# Altium integrated library Dallas Logic Delay Line.IntLib: 454 symbols (part 5 of 7)
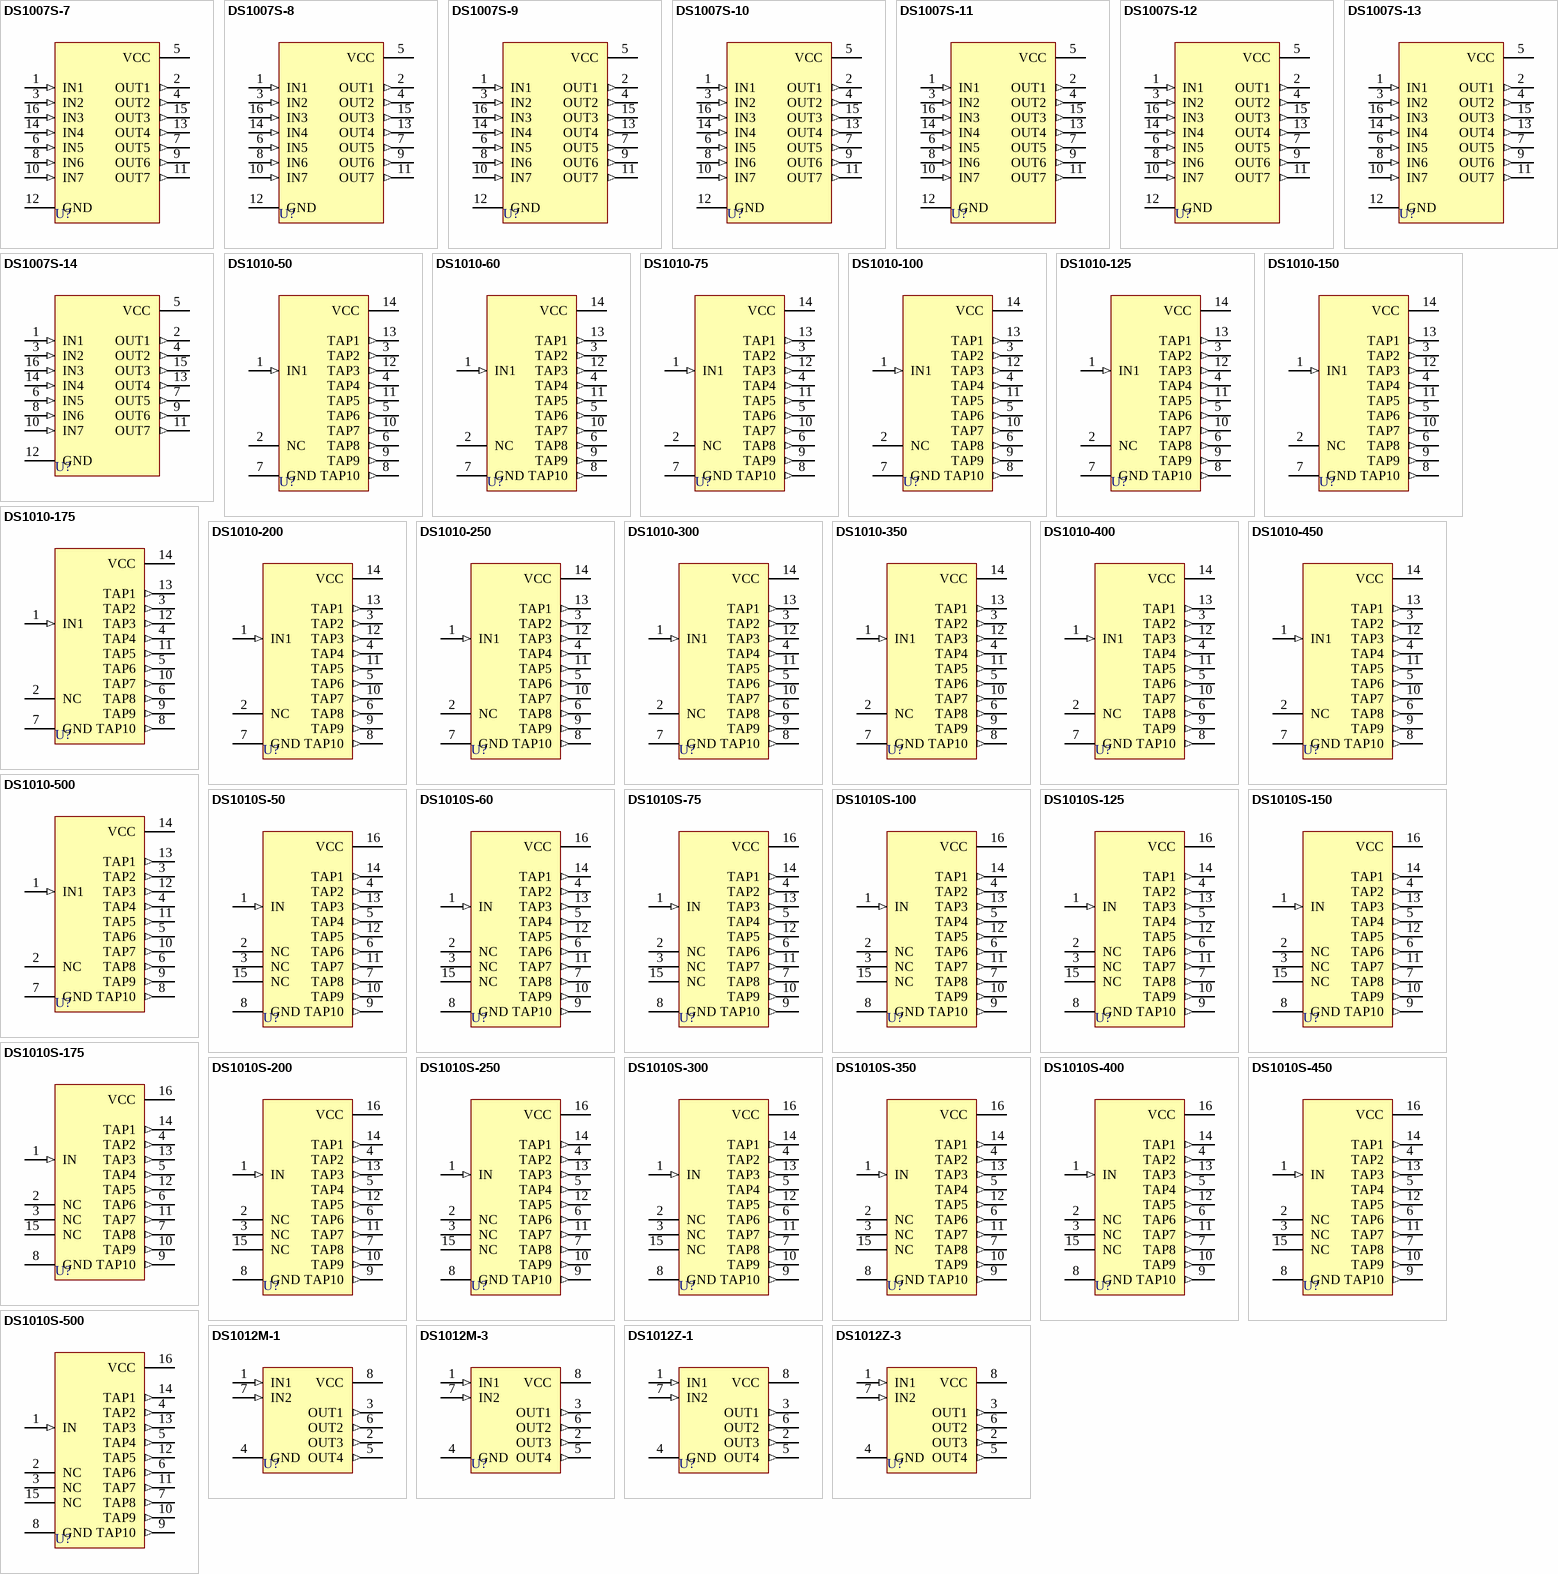
[diagram p15: symbols DS1007S-7 to DS1012Z-3]

## DS1010S-150
designator U?
10-Tap Silicon Delay Line; PackageDocument: 1999; Note: Pin numbers 2, 3 and 15 are Not Connected (NC); Published: 13-Oct-2000; LatestRevisionDate: 06-Jun-2005; LatestRevisionNote: Stylized 3D Model Added.; DatasheetDocument: 17-Feb-1998; PackageReference: SOIC16W; Publisher: Altium Limited; ComponentLink1Description: Manufacturer Link; ComponentLink1URL: http://www.maxim-ic.com/; ComponentLink2Description: Datasheet; ComponentLink2URL: http://www.maxim-ic.com/getds.cfm?qv_pk=2604&ln=en
footprint SOIC16W (Small Outline; 16 Leads; Body Width 7.5 mm; Pitch 1.27 mm)
3D model SOIC16W (Small Outline; 16 Leads; Body Width 7.5 mm; Pitch 1.27 mm)
pins: 1 IN (in), 2 NC, 3 NC, 4 TAP2 (out), 5 TAP4 (out), 6 TAP6 (out), 7 TAP8 (out), 8 GND (power), 9 TAP10 (out), 10 TAP9 (out), 11 TAP7 (out), 12 TAP5 (out), 13 TAP3 (out), 14 TAP1 (out), 15 NC, 16 VCC (power)

## DS1010S-175
designator U?
10-Tap Silicon Delay Line; PackageDocument: 1999; Note: Pin numbers 2, 3 and 15 are Not Connected (NC); Published: 13-Oct-2000; LatestRevisionDate: 06-Jun-2005; LatestRevisionNote: Stylized 3D Model Added.; DatasheetDocument: 17-Feb-1998; PackageReference: SOIC16W; Publisher: Altium Limited; ComponentLink1Description: Manufacturer Link; ComponentLink1URL: http://www.maxim-ic.com/; ComponentLink2Description: Datasheet; ComponentLink2URL: http://www.maxim-ic.com/getds.cfm?qv_pk=2604&ln=en
footprint SOIC16W (Small Outline; 16 Leads; Body Width 7.5 mm; Pitch 1.27 mm)
3D model SOIC16W (Small Outline; 16 Leads; Body Width 7.5 mm; Pitch 1.27 mm)
pins: 1 IN (in), 2 NC, 3 NC, 4 TAP2 (out), 5 TAP4 (out), 6 TAP6 (out), 7 TAP8 (out), 8 GND (power), 9 TAP10 (out), 10 TAP9 (out), 11 TAP7 (out), 12 TAP5 (out), 13 TAP3 (out), 14 TAP1 (out), 15 NC, 16 VCC (power)

## DS1010S-200
designator U?
10-Tap Silicon Delay Line; PackageDocument: 1999; Note: Pin numbers 2, 3 and 15 are Not Connected (NC); Published: 13-Oct-2000; LatestRevisionDate: 06-Jun-2005; LatestRevisionNote: Stylized 3D Model Added.; DatasheetDocument: 17-Feb-1998; PackageReference: SOIC16W; Publisher: Altium Limited; ComponentLink1Description: Manufacturer Link; ComponentLink1URL: http://www.maxim-ic.com/; ComponentLink2Description: Datasheet; ComponentLink2URL: http://www.maxim-ic.com/getds.cfm?qv_pk=2604&ln=en
footprint SOIC16W (Small Outline; 16 Leads; Body Width 7.5 mm; Pitch 1.27 mm)
3D model SOIC16W (Small Outline; 16 Leads; Body Width 7.5 mm; Pitch 1.27 mm)
pins: 1 IN (in), 2 NC, 3 NC, 4 TAP2 (out), 5 TAP4 (out), 6 TAP6 (out), 7 TAP8 (out), 8 GND (power), 9 TAP10 (out), 10 TAP9 (out), 11 TAP7 (out), 12 TAP5 (out), 13 TAP3 (out), 14 TAP1 (out), 15 NC, 16 VCC (power)

## DS1010S-250
designator U?
10-Tap Silicon Delay Line; PackageDocument: 1999; Note: Pin numbers 2, 3 and 15 are Not Connected (NC); Published: 13-Oct-2000; LatestRevisionDate: 06-Jun-2005; LatestRevisionNote: Stylized 3D Model Added.; DatasheetDocument: 17-Feb-1998; PackageReference: SOIC16W; Publisher: Altium Limited; ComponentLink1Description: Manufacturer Link; ComponentLink1URL: http://www.maxim-ic.com/; ComponentLink2Description: Datasheet; ComponentLink2URL: http://www.maxim-ic.com/getds.cfm?qv_pk=2604&ln=en
footprint SOIC16W (Small Outline; 16 Leads; Body Width 7.5 mm; Pitch 1.27 mm)
3D model SOIC16W (Small Outline; 16 Leads; Body Width 7.5 mm; Pitch 1.27 mm)
pins: 1 IN (in), 2 NC, 3 NC, 4 TAP2 (out), 5 TAP4 (out), 6 TAP6 (out), 7 TAP8 (out), 8 GND (power), 9 TAP10 (out), 10 TAP9 (out), 11 TAP7 (out), 12 TAP5 (out), 13 TAP3 (out), 14 TAP1 (out), 15 NC, 16 VCC (power)

## DS1010S-300
designator U?
10-Tap Silicon Delay Line; PackageDocument: 1999; Note: Pin numbers 2, 3 and 15 are Not Connected (NC); Published: 13-Oct-2000; LatestRevisionDate: 06-Jun-2005; LatestRevisionNote: Stylized 3D Model Added.; DatasheetDocument: 17-Feb-1998; PackageReference: SOIC16W; Publisher: Altium Limited; ComponentLink1Description: Manufacturer Link; ComponentLink1URL: http://www.maxim-ic.com/; ComponentLink2Description: Datasheet; ComponentLink2URL: http://www.maxim-ic.com/getds.cfm?qv_pk=2604&ln=en
footprint SOIC16W (Small Outline; 16 Leads; Body Width 7.5 mm; Pitch 1.27 mm)
3D model SOIC16W (Small Outline; 16 Leads; Body Width 7.5 mm; Pitch 1.27 mm)
pins: 1 IN (in), 2 NC, 3 NC, 4 TAP2 (out), 5 TAP4 (out), 6 TAP6 (out), 7 TAP8 (out), 8 GND (power), 9 TAP10 (out), 10 TAP9 (out), 11 TAP7 (out), 12 TAP5 (out), 13 TAP3 (out), 14 TAP1 (out), 15 NC, 16 VCC (power)

## DS1010S-350
designator U?
10-Tap Silicon Delay Line; PackageDocument: 1999; Note: Pin numbers 2, 3 and 15 are Not Connected (NC); Published: 13-Oct-2000; LatestRevisionDate: 06-Jun-2005; LatestRevisionNote: Stylized 3D Model Added.; DatasheetDocument: 17-Feb-1998; PackageReference: SOIC16W; Publisher: Altium Limited; ComponentLink1Description: Manufacturer Link; ComponentLink1URL: http://www.maxim-ic.com/; ComponentLink2Description: Datasheet; ComponentLink2URL: http://www.maxim-ic.com/getds.cfm?qv_pk=2604&ln=en
footprint SOIC16W (Small Outline; 16 Leads; Body Width 7.5 mm; Pitch 1.27 mm)
3D model SOIC16W (Small Outline; 16 Leads; Body Width 7.5 mm; Pitch 1.27 mm)
pins: 1 IN (in), 2 NC, 3 NC, 4 TAP2 (out), 5 TAP4 (out), 6 TAP6 (out), 7 TAP8 (out), 8 GND (power), 9 TAP10 (out), 10 TAP9 (out), 11 TAP7 (out), 12 TAP5 (out), 13 TAP3 (out), 14 TAP1 (out), 15 NC, 16 VCC (power)

## DS1010S-400
designator U?
10-Tap Silicon Delay Line; PackageDocument: 1999; Note: Pin numbers 2, 3 and 15 are Not Connected (NC); Published: 13-Oct-2000; LatestRevisionDate: 06-Jun-2005; LatestRevisionNote: Stylized 3D Model Added.; DatasheetDocument: 17-Feb-1998; PackageReference: SOIC16W; Publisher: Altium Limited; ComponentLink1Description: Manufacturer Link; ComponentLink1URL: http://www.maxim-ic.com/; ComponentLink2Description: Datasheet; ComponentLink2URL: http://www.maxim-ic.com/getds.cfm?qv_pk=2604&ln=en
footprint SOIC16W (Small Outline; 16 Leads; Body Width 7.5 mm; Pitch 1.27 mm)
3D model SOIC16W (Small Outline; 16 Leads; Body Width 7.5 mm; Pitch 1.27 mm)
pins: 1 IN (in), 2 NC, 3 NC, 4 TAP2 (out), 5 TAP4 (out), 6 TAP6 (out), 7 TAP8 (out), 8 GND (power), 9 TAP10 (out), 10 TAP9 (out), 11 TAP7 (out), 12 TAP5 (out), 13 TAP3 (out), 14 TAP1 (out), 15 NC, 16 VCC (power)

## DS1010S-450
designator U?
10-Tap Silicon Delay Line; PackageDocument: 1999; Note: Pin numbers 2, 3 and 15 are Not Connected (NC); Published: 13-Oct-2000; LatestRevisionDate: 06-Jun-2005; LatestRevisionNote: Stylized 3D Model Added.; DatasheetDocument: 17-Feb-1998; PackageReference: SOIC16W; Publisher: Altium Limited; ComponentLink1Description: Manufacturer Link; ComponentLink1URL: http://www.maxim-ic.com/; ComponentLink2Description: Datasheet; ComponentLink2URL: http://www.maxim-ic.com/getds.cfm?qv_pk=2604&ln=en
footprint SOIC16W (Small Outline; 16 Leads; Body Width 7.5 mm; Pitch 1.27 mm)
3D model SOIC16W (Small Outline; 16 Leads; Body Width 7.5 mm; Pitch 1.27 mm)
pins: 1 IN (in), 2 NC, 3 NC, 4 TAP2 (out), 5 TAP4 (out), 6 TAP6 (out), 7 TAP8 (out), 8 GND (power), 9 TAP10 (out), 10 TAP9 (out), 11 TAP7 (out), 12 TAP5 (out), 13 TAP3 (out), 14 TAP1 (out), 15 NC, 16 VCC (power)

## DS1010S-500
designator U?
10-Tap Silicon Delay Line; PackageDocument: 1999; Note: Pin numbers 2, 3 and 15 are Not Connected (NC); Published: 13-Oct-2000; LatestRevisionDate: 06-Jun-2005; LatestRevisionNote: Stylized 3D Model Added.; DatasheetDocument: 17-Feb-1998; PackageReference: SOIC16W; Publisher: Altium Limited; ComponentLink1Description: Manufacturer Link; ComponentLink1URL: http://www.maxim-ic.com/; ComponentLink2Description: Datasheet; ComponentLink2URL: http://www.maxim-ic.com/getds.cfm?qv_pk=2604&ln=en
footprint SOIC16W (Small Outline; 16 Leads; Body Width 7.5 mm; Pitch 1.27 mm)
3D model SOIC16W (Small Outline; 16 Leads; Body Width 7.5 mm; Pitch 1.27 mm)
pins: 1 IN (in), 2 NC, 3 NC, 4 TAP2 (out), 5 TAP4 (out), 6 TAP6 (out), 7 TAP8 (out), 8 GND (power), 9 TAP10 (out), 10 TAP9 (out), 11 TAP7 (out), 12 TAP5 (out), 13 TAP3 (out), 14 TAP1 (out), 15 NC, 16 VCC (power)

## DS1012M-1
designator U?
2-in-1 Sub-Miniature Silicon Delay Line with Logic; PackageDocument: 1999; Published: 13-Oct-2000; LatestRevisionDate: 06-Jun-2005; LatestRevisionNote: Stylized 3D Model Added.; DatasheetDocument: 17-Feb-1998; PackageReference: DIP8; Publisher: Altium Limited; ComponentLink1Description: Manufacturer Link; ComponentLink1URL: http://www.maxim-ic.com/
footprint DIP8 (DIP; 8 Leads; Row Spacing 7.62 mm; Pitch 2.54 mm)
3D model DIP-8 (DIP; 8 Leads; Row Spacing 7.62 mm; Pitch 2.54 mm)
pins: 1 IN1 (in), 2 OUT3 (out), 3 OUT1 (out), 4 GND (power), 5 OUT4 (out), 6 OUT2 (out), 7 IN2 (in), 8 VCC (power)

## DS1012M-3
designator U?
2-in-1 Sub-Miniature Silicon Delay Line with Logic; PackageDocument: 1999; Published: 13-Oct-2000; LatestRevisionDate: 06-Jun-2005; LatestRevisionNote: Stylized 3D Model Added.; DatasheetDocument: 17-Feb-1998; PackageReference: DIP8; Publisher: Altium Limited; ComponentLink1Description: Manufacturer Link; ComponentLink1URL: http://www.maxim-ic.com/
footprint DIP8 (DIP; 8 Leads; Row Spacing 7.62 mm; Pitch 2.54 mm)
3D model DIP-8 (DIP; 8 Leads; Row Spacing 7.62 mm; Pitch 2.54 mm)
pins: 1 IN1 (in), 2 OUT3 (out), 3 OUT1 (out), 4 GND (power), 5 OUT4 (out), 6 OUT2 (out), 7 IN2 (in), 8 VCC (power)

## DS1012Z-1
designator U?
2-in-1 Sub-Miniature Silicon Delay Line with Logic; PackageDocument: 1999; Published: 13-Oct-2000; LatestRevisionDate: 06-Jun-2005; LatestRevisionNote: Stylized 3D Model Added.; DatasheetDocument: 17-Feb-1998; PackageReference: SOIC8N; Publisher: Altium Limited; ComponentLink1Description: Manufacturer Link; ComponentLink1URL: http://www.maxim-ic.com/
footprint SOIC8N (Small Outline; 8 Leads; Body Width 3.9 mm; Pitch 1.27 mm)
3D model SOIC8N (Small Outline; 8 Leads; Body Width 3.9 mm; Pitch 1.27 mm)
pins: 1 IN1 (in), 2 OUT3 (out), 3 OUT1 (out), 4 GND (power), 5 OUT4 (out), 6 OUT2 (out), 7 IN2 (in), 8 VCC (power)

## DS1012Z-3
designator U?
2-in-1 Sub-Miniature Silicon Delay Line with Logic; PackageDocument: 1999; Published: 13-Oct-2000; LatestRevisionDate: 06-Jun-2005; LatestRevisionNote: Stylized 3D Model Added.; DatasheetDocument: 17-Feb-1998; PackageReference: SOIC8N; Publisher: Altium Limited; ComponentLink1Description: Manufacturer Link; ComponentLink1URL: http://www.maxim-ic.com/
footprint SOIC8N (Small Outline; 8 Leads; Body Width 3.9 mm; Pitch 1.27 mm)
3D model SOIC8N (Small Outline; 8 Leads; Body Width 3.9 mm; Pitch 1.27 mm)
pins: 1 IN1 (in), 2 OUT3 (out), 3 OUT1 (out), 4 GND (power), 5 OUT4 (out), 6 OUT2 (out), 7 IN2 (in), 8 VCC (power)

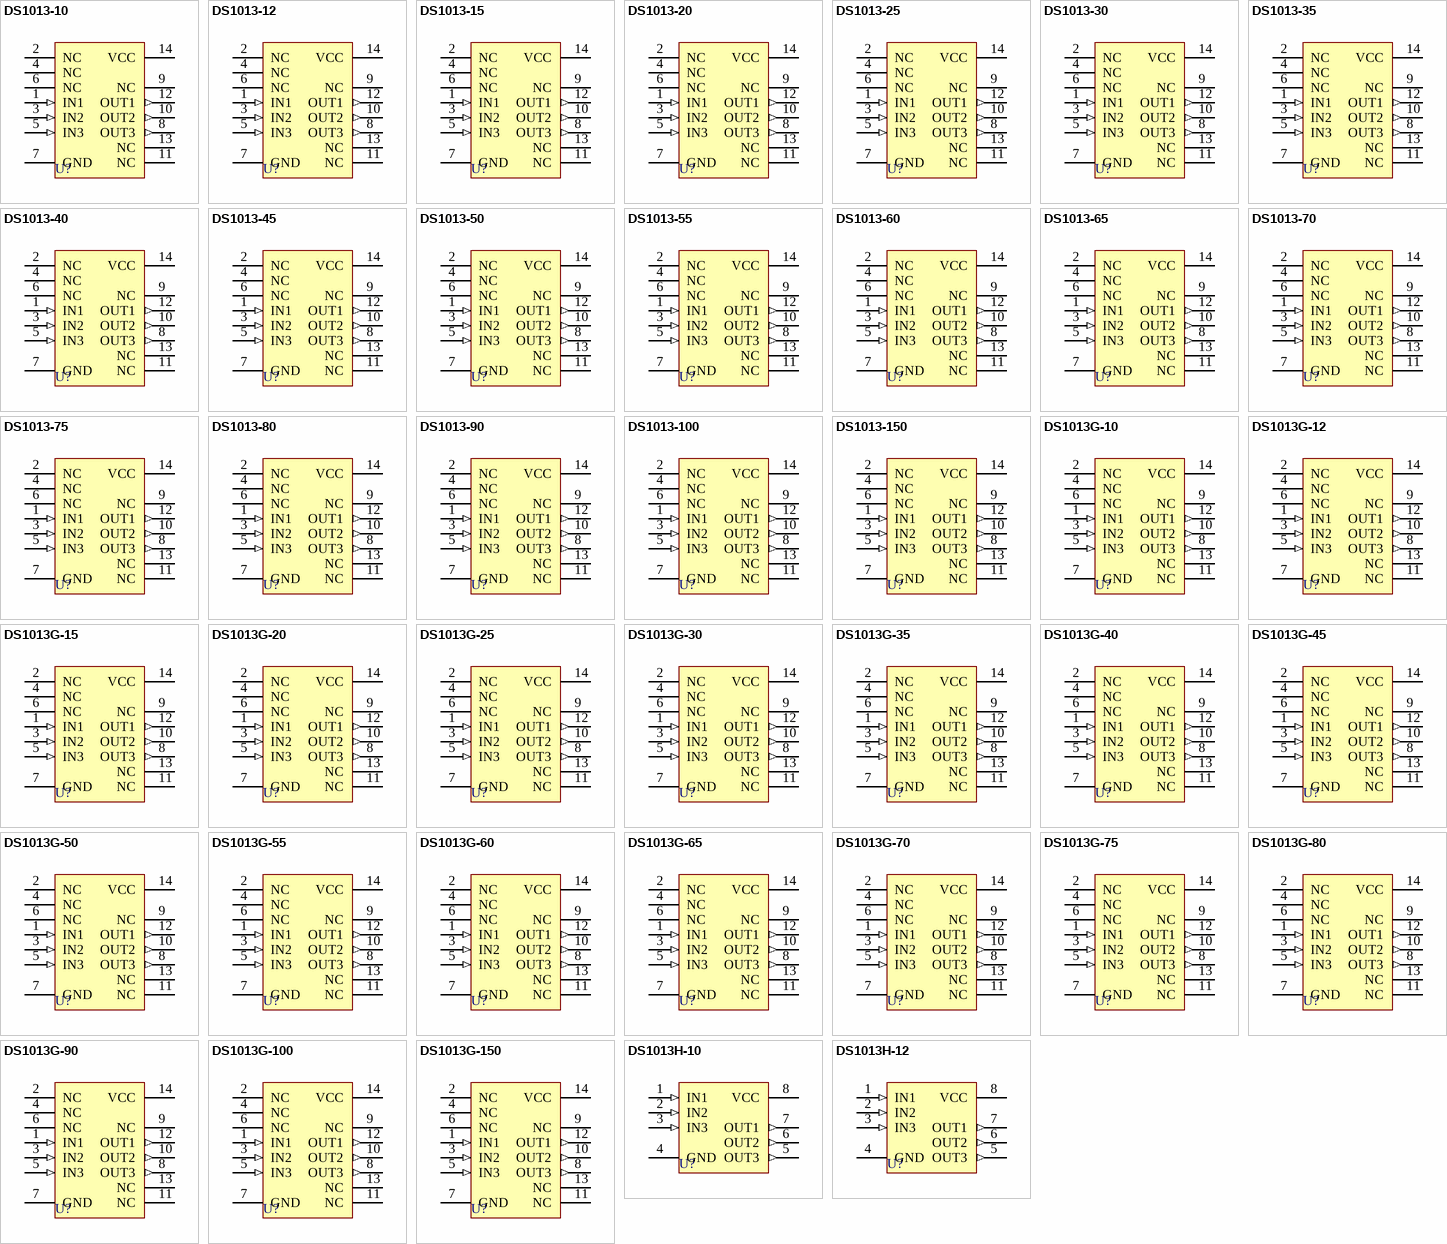
[diagram p7: symbols DS1013-10 to DS1013H-12]

## DS1013-10
designator U?
3-in-1 Silicon Delay Line; PackageDocument: 1999; Note: Pin numbers 2, 4, 6, 9, 11 and 13 are Not Connected (NC); Published: 13-Oct-2000; LatestRevisionDate: 06-Jun-2005; LatestRevisionNote: Stylized 3D Model Added.; DatasheetDocument: 17-Feb-1998; PackageReference: DIP14; Publisher: Altium Limited; ComponentLink1Description: Manufacturer Link; ComponentLink1URL: http://www.maxim-ic.com/; ComponentLink2Description: Datasheet; ComponentLink2URL: http://www.maxim-ic.com/getds.cfm?qv_pk=2605&ln=en
footprint DIP14 (DIP; 14 Leads; Row Spacing 7.62 mm; Pitch 2.54 mm)
3D model DIP14 (DIP; 14 Leads; Row Spacing 7.62 mm; Pitch 2.54 mm)
pins: 1 IN1 (in), 2 NC, 3 IN2 (in), 4 NC, 5 IN3 (in), 6 NC, 7 GND (power), 8 OUT3 (out), 9 NC, 10 OUT2 (out), 11 NC, 12 OUT1 (out), 13 NC, 14 VCC (power)

## DS1013-12
designator U?
3-in-1 Silicon Delay Line; PackageDocument: 1999; Note: Pin numbers 2, 4, 6, 9, 11 and 13 are Not Connected (NC); Published: 13-Oct-2000; LatestRevisionDate: 06-Jun-2005; LatestRevisionNote: Stylized 3D Model Added.; DatasheetDocument: 17-Feb-1998; PackageReference: DIP14; Publisher: Altium Limited; ComponentLink1Description: Manufacturer Link; ComponentLink1URL: http://www.maxim-ic.com/; ComponentLink2Description: Datasheet; ComponentLink2URL: http://www.maxim-ic.com/getds.cfm?qv_pk=2605&ln=en
footprint DIP14 (DIP; 14 Leads; Row Spacing 7.62 mm; Pitch 2.54 mm)
3D model DIP14 (DIP; 14 Leads; Row Spacing 7.62 mm; Pitch 2.54 mm)
pins: 1 IN1 (in), 2 NC, 3 IN2 (in), 4 NC, 5 IN3 (in), 6 NC, 7 GND (power), 8 OUT3 (out), 9 NC, 10 OUT2 (out), 11 NC, 12 OUT1 (out), 13 NC, 14 VCC (power)

## DS1013-15
designator U?
3-in-1 Silicon Delay Line; PackageDocument: 1999; Note: Pin numbers 2, 4, 6, 9, 11 and 13 are Not Connected (NC); Published: 13-Oct-2000; LatestRevisionDate: 06-Jun-2005; LatestRevisionNote: Stylized 3D Model Added.; DatasheetDocument: 17-Feb-1998; PackageReference: DIP14; Publisher: Altium Limited; ComponentLink1Description: Manufacturer Link; ComponentLink1URL: http://www.maxim-ic.com/; ComponentLink2Description: Datasheet; ComponentLink2URL: http://www.maxim-ic.com/getds.cfm?qv_pk=2605&ln=en
footprint DIP14 (DIP; 14 Leads; Row Spacing 7.62 mm; Pitch 2.54 mm)
3D model DIP14 (DIP; 14 Leads; Row Spacing 7.62 mm; Pitch 2.54 mm)
pins: 1 IN1 (in), 2 NC, 3 IN2 (in), 4 NC, 5 IN3 (in), 6 NC, 7 GND (power), 8 OUT3 (out), 9 NC, 10 OUT2 (out), 11 NC, 12 OUT1 (out), 13 NC, 14 VCC (power)

## DS1013-20
designator U?
3-in-1 Silicon Delay Line; PackageDocument: 1999; Note: Pin numbers 2, 4, 6, 9, 11 and 13 are Not Connected (NC); Published: 13-Oct-2000; LatestRevisionDate: 06-Jun-2005; LatestRevisionNote: Stylized 3D Model Added.; DatasheetDocument: 17-Feb-1998; PackageReference: DIP14; Publisher: Altium Limited; ComponentLink1Description: Manufacturer Link; ComponentLink1URL: http://www.maxim-ic.com/; ComponentLink2Description: Datasheet; ComponentLink2URL: http://www.maxim-ic.com/getds.cfm?qv_pk=2605&ln=en
footprint DIP14 (DIP; 14 Leads; Row Spacing 7.62 mm; Pitch 2.54 mm)
3D model DIP14 (DIP; 14 Leads; Row Spacing 7.62 mm; Pitch 2.54 mm)
pins: 1 IN1 (in), 2 NC, 3 IN2 (in), 4 NC, 5 IN3 (in), 6 NC, 7 GND (power), 8 OUT3 (out), 9 NC, 10 OUT2 (out), 11 NC, 12 OUT1 (out), 13 NC, 14 VCC (power)

## DS1013-25
designator U?
3-in-1 Silicon Delay Line; PackageDocument: 1999; Note: Pin numbers 2, 4, 6, 9, 11 and 13 are Not Connected (NC); Published: 13-Oct-2000; LatestRevisionDate: 06-Jun-2005; LatestRevisionNote: Stylized 3D Model Added.; DatasheetDocument: 17-Feb-1998; PackageReference: DIP14; Publisher: Altium Limited; ComponentLink1Description: Manufacturer Link; ComponentLink1URL: http://www.maxim-ic.com/; ComponentLink2Description: Datasheet; ComponentLink2URL: http://www.maxim-ic.com/getds.cfm?qv_pk=2605&ln=en
footprint DIP14 (DIP; 14 Leads; Row Spacing 7.62 mm; Pitch 2.54 mm)
3D model DIP14 (DIP; 14 Leads; Row Spacing 7.62 mm; Pitch 2.54 mm)
pins: 1 IN1 (in), 2 NC, 3 IN2 (in), 4 NC, 5 IN3 (in), 6 NC, 7 GND (power), 8 OUT3 (out), 9 NC, 10 OUT2 (out), 11 NC, 12 OUT1 (out), 13 NC, 14 VCC (power)

## DS1013-30
designator U?
3-in-1 Silicon Delay Line; PackageDocument: 1999; Note: Pin numbers 2, 4, 6, 9, 11 and 13 are Not Connected (NC); Published: 13-Oct-2000; LatestRevisionDate: 06-Jun-2005; LatestRevisionNote: Stylized 3D Model Added.; DatasheetDocument: 17-Feb-1998; PackageReference: DIP14; Publisher: Altium Limited; ComponentLink1Description: Manufacturer Link; ComponentLink1URL: http://www.maxim-ic.com/; ComponentLink2Description: Datasheet; ComponentLink2URL: http://www.maxim-ic.com/getds.cfm?qv_pk=2605&ln=en
footprint DIP14 (DIP; 14 Leads; Row Spacing 7.62 mm; Pitch 2.54 mm)
3D model DIP14 (DIP; 14 Leads; Row Spacing 7.62 mm; Pitch 2.54 mm)
pins: 1 IN1 (in), 2 NC, 3 IN2 (in), 4 NC, 5 IN3 (in), 6 NC, 7 GND (power), 8 OUT3 (out), 9 NC, 10 OUT2 (out), 11 NC, 12 OUT1 (out), 13 NC, 14 VCC (power)

## DS1013-35
designator U?
3-in-1 Silicon Delay Line; PackageDocument: 1999; Note: Pin numbers 2, 4, 6, 9, 11 and 13 are Not Connected (NC); Published: 13-Oct-2000; LatestRevisionDate: 06-Jun-2005; LatestRevisionNote: Stylized 3D Model Added.; DatasheetDocument: 17-Feb-1998; PackageReference: DIP14; Publisher: Altium Limited; ComponentLink1Description: Manufacturer Link; ComponentLink1URL: http://www.maxim-ic.com/; ComponentLink2Description: Datasheet; ComponentLink2URL: http://www.maxim-ic.com/getds.cfm?qv_pk=2605&ln=en
footprint DIP14 (DIP; 14 Leads; Row Spacing 7.62 mm; Pitch 2.54 mm)
3D model DIP14 (DIP; 14 Leads; Row Spacing 7.62 mm; Pitch 2.54 mm)
pins: 1 IN1 (in), 2 NC, 3 IN2 (in), 4 NC, 5 IN3 (in), 6 NC, 7 GND (power), 8 OUT3 (out), 9 NC, 10 OUT2 (out), 11 NC, 12 OUT1 (out), 13 NC, 14 VCC (power)

## DS1013-40
designator U?
3-in-1 Silicon Delay Line; PackageDocument: 1999; Note: Pin numbers 2, 4, 6, 9, 11 and 13 are Not Connected (NC); Published: 13-Oct-2000; LatestRevisionDate: 06-Jun-2005; LatestRevisionNote: Stylized 3D Model Added.; DatasheetDocument: 17-Feb-1998; PackageReference: DIP14; Publisher: Altium Limited; ComponentLink1Description: Manufacturer Link; ComponentLink1URL: http://www.maxim-ic.com/; ComponentLink2Description: Datasheet; ComponentLink2URL: http://www.maxim-ic.com/getds.cfm?qv_pk=2605&ln=en
footprint DIP14 (DIP; 14 Leads; Row Spacing 7.62 mm; Pitch 2.54 mm)
3D model DIP14 (DIP; 14 Leads; Row Spacing 7.62 mm; Pitch 2.54 mm)
pins: 1 IN1 (in), 2 NC, 3 IN2 (in), 4 NC, 5 IN3 (in), 6 NC, 7 GND (power), 8 OUT3 (out), 9 NC, 10 OUT2 (out), 11 NC, 12 OUT1 (out), 13 NC, 14 VCC (power)

## DS1013-45
designator U?
3-in-1 Silicon Delay Line; PackageDocument: 1999; Note: Pin numbers 2, 4, 6, 9, 11 and 13 are Not Connected (NC); Published: 13-Oct-2000; LatestRevisionDate: 06-Jun-2005; LatestRevisionNote: Stylized 3D Model Added.; DatasheetDocument: 17-Feb-1998; PackageReference: DIP14; Publisher: Altium Limited; ComponentLink1Description: Manufacturer Link; ComponentLink1URL: http://www.maxim-ic.com/; ComponentLink2Description: Datasheet; ComponentLink2URL: http://www.maxim-ic.com/getds.cfm?qv_pk=2605&ln=en
footprint DIP14 (DIP; 14 Leads; Row Spacing 7.62 mm; Pitch 2.54 mm)
3D model DIP14 (DIP; 14 Leads; Row Spacing 7.62 mm; Pitch 2.54 mm)
pins: 1 IN1 (in), 2 NC, 3 IN2 (in), 4 NC, 5 IN3 (in), 6 NC, 7 GND (power), 8 OUT3 (out), 9 NC, 10 OUT2 (out), 11 NC, 12 OUT1 (out), 13 NC, 14 VCC (power)

## DS1013-50
designator U?
3-in-1 Silicon Delay Line; PackageDocument: 1999; Note: Pin numbers 2, 4, 6, 9, 11 and 13 are Not Connected (NC); Published: 13-Oct-2000; LatestRevisionDate: 06-Jun-2005; LatestRevisionNote: Stylized 3D Model Added.; DatasheetDocument: 17-Feb-1998; PackageReference: DIP14; Publisher: Altium Limited; ComponentLink1Description: Manufacturer Link; ComponentLink1URL: http://www.maxim-ic.com/; ComponentLink2Description: Datasheet; ComponentLink2URL: http://www.maxim-ic.com/getds.cfm?qv_pk=2605&ln=en
footprint DIP14 (DIP; 14 Leads; Row Spacing 7.62 mm; Pitch 2.54 mm)
3D model DIP14 (DIP; 14 Leads; Row Spacing 7.62 mm; Pitch 2.54 mm)
pins: 1 IN1 (in), 2 NC, 3 IN2 (in), 4 NC, 5 IN3 (in), 6 NC, 7 GND (power), 8 OUT3 (out), 9 NC, 10 OUT2 (out), 11 NC, 12 OUT1 (out), 13 NC, 14 VCC (power)

## DS1013-55
designator U?
3-in-1 Silicon Delay Line; PackageDocument: 1999; Note: Pin numbers 2, 4, 6, 9, 11 and 13 are Not Connected (NC); Published: 13-Oct-2000; LatestRevisionDate: 06-Jun-2005; LatestRevisionNote: Stylized 3D Model Added.; DatasheetDocument: Mar-1994; PackageReference: DIP14; Publisher: Altium Limited; ComponentLink1Description: Manufacturer Link; ComponentLink1URL: http://www.maxim-ic.com/; ComponentLink2Description: Datasheet; ComponentLink2URL: http://www.maxim-ic.com/getds.cfm?qv_pk=2605&ln=en
footprint DIP14 (DIP; 14 Leads; Row Spacing 7.62 mm; Pitch 2.54 mm)
3D model DIP14 (DIP; 14 Leads; Row Spacing 7.62 mm; Pitch 2.54 mm)
pins: 1 IN1 (in), 2 NC, 3 IN2 (in), 4 NC, 5 IN3 (in), 6 NC, 7 GND (power), 8 OUT3 (out), 9 NC, 10 OUT2 (out), 11 NC, 12 OUT1 (out), 13 NC, 14 VCC (power)

## DS1013-60
designator U?
3-in-1 Silicon Delay Line; PackageDocument: 1999; Note: Pin numbers 2, 4, 6, 9, 11 and 13 are Not Connected (NC); Published: 13-Oct-2000; LatestRevisionDate: 06-Jun-2005; LatestRevisionNote: Stylized 3D Model Added.; DatasheetDocument: 17-Feb-1998; PackageReference: DIP14; Publisher: Altium Limited; ComponentLink1Description: Manufacturer Link; ComponentLink1URL: http://www.maxim-ic.com/; ComponentLink2Description: Datasheet; ComponentLink2URL: http://www.maxim-ic.com/getds.cfm?qv_pk=2605&ln=en
footprint DIP14 (DIP; 14 Leads; Row Spacing 7.62 mm; Pitch 2.54 mm)
3D model DIP14 (DIP; 14 Leads; Row Spacing 7.62 mm; Pitch 2.54 mm)
pins: 1 IN1 (in), 2 NC, 3 IN2 (in), 4 NC, 5 IN3 (in), 6 NC, 7 GND (power), 8 OUT3 (out), 9 NC, 10 OUT2 (out), 11 NC, 12 OUT1 (out), 13 NC, 14 VCC (power)

## DS1013-65
designator U?
3-in-1 Silicon Delay Line; PackageDocument: 1999; Note: Pin numbers 2, 4, 6, 9, 11 and 13 are Not Connected (NC); Published: 13-Oct-2000; LatestRevisionDate: 06-Jun-2005; LatestRevisionNote: Stylized 3D Model Added.; DatasheetDocument: Mar-1994; PackageReference: DIP14; Publisher: Altium Limited; ComponentLink1Description: Manufacturer Link; ComponentLink1URL: http://www.maxim-ic.com/; ComponentLink2Description: Datasheet; ComponentLink2URL: http://www.maxim-ic.com/getds.cfm?qv_pk=2605&ln=en
footprint DIP14 (DIP; 14 Leads; Row Spacing 7.62 mm; Pitch 2.54 mm)
3D model DIP14 (DIP; 14 Leads; Row Spacing 7.62 mm; Pitch 2.54 mm)
pins: 1 IN1 (in), 2 NC, 3 IN2 (in), 4 NC, 5 IN3 (in), 6 NC, 7 GND (power), 8 OUT3 (out), 9 NC, 10 OUT2 (out), 11 NC, 12 OUT1 (out), 13 NC, 14 VCC (power)

## DS1013-70
designator U?
3-in-1 Silicon Delay Line; PackageDocument: 1999; Note: Pin numbers 2, 4, 6, 9, 11 and 13 are Not Connected (NC); Published: 13-Oct-2000; LatestRevisionDate: 06-Jun-2005; LatestRevisionNote: Stylized 3D Model Added.; DatasheetDocument: 17-Feb-1998; PackageReference: DIP14; Publisher: Altium Limited; ComponentLink1Description: Manufacturer Link; ComponentLink1URL: http://www.maxim-ic.com/; ComponentLink2Description: Datasheet; ComponentLink2URL: http://www.maxim-ic.com/getds.cfm?qv_pk=2605&ln=en
footprint DIP14 (DIP; 14 Leads; Row Spacing 7.62 mm; Pitch 2.54 mm)
3D model DIP14 (DIP; 14 Leads; Row Spacing 7.62 mm; Pitch 2.54 mm)
pins: 1 IN1 (in), 2 NC, 3 IN2 (in), 4 NC, 5 IN3 (in), 6 NC, 7 GND (power), 8 OUT3 (out), 9 NC, 10 OUT2 (out), 11 NC, 12 OUT1 (out), 13 NC, 14 VCC (power)

## DS1013-75
designator U?
3-in-1 Silicon Delay Line; PackageDocument: 1999; Note: Pin numbers 2, 4, 6, 9, 11 and 13 are Not Connected (NC); Published: 13-Oct-2000; LatestRevisionDate: 06-Jun-2005; LatestRevisionNote: Stylized 3D Model Added.; DatasheetDocument: 17-Feb-1998; PackageReference: DIP14; Publisher: Altium Limited; ComponentLink1Description: Manufacturer Link; ComponentLink1URL: http://www.maxim-ic.com/; ComponentLink2Description: Datasheet; ComponentLink2URL: http://www.maxim-ic.com/getds.cfm?qv_pk=2605&ln=en
footprint DIP14 (DIP; 14 Leads; Row Spacing 7.62 mm; Pitch 2.54 mm)
3D model DIP14 (DIP; 14 Leads; Row Spacing 7.62 mm; Pitch 2.54 mm)
pins: 1 IN1 (in), 2 NC, 3 IN2 (in), 4 NC, 5 IN3 (in), 6 NC, 7 GND (power), 8 OUT3 (out), 9 NC, 10 OUT2 (out), 11 NC, 12 OUT1 (out), 13 NC, 14 VCC (power)

## DS1013-80
designator U?
3-in-1 Silicon Delay Line; PackageDocument: 1999; Note: Pin numbers 2, 4, 6, 9, 11 and 13 are Not Connected (NC); Published: 13-Oct-2000; LatestRevisionDate: 06-Jun-2005; LatestRevisionNote: Stylized 3D Model Added.; DatasheetDocument: 17-Feb-1998; PackageReference: DIP14; Publisher: Altium Limited; ComponentLink1Description: Manufacturer Link; ComponentLink1URL: http://www.maxim-ic.com/; ComponentLink2Description: Datasheet; ComponentLink2URL: http://www.maxim-ic.com/getds.cfm?qv_pk=2605&ln=en
footprint DIP14 (DIP; 14 Leads; Row Spacing 7.62 mm; Pitch 2.54 mm)
3D model DIP14 (DIP; 14 Leads; Row Spacing 7.62 mm; Pitch 2.54 mm)
pins: 1 IN1 (in), 2 NC, 3 IN2 (in), 4 NC, 5 IN3 (in), 6 NC, 7 GND (power), 8 OUT3 (out), 9 NC, 10 OUT2 (out), 11 NC, 12 OUT1 (out), 13 NC, 14 VCC (power)

## DS1013-90
designator U?
3-in-1 Silicon Delay Line; PackageDocument: 1999; Note: Pin numbers 2, 4, 6, 9, 11 and 13 are Not Connected (NC); Published: 13-Oct-2000; LatestRevisionDate: 06-Jun-2005; LatestRevisionNote: Stylized 3D Model Added.; DatasheetDocument: Mar-1994; PackageReference: DIP14; Publisher: Altium Limited; ComponentLink1Description: Manufacturer Link; ComponentLink1URL: http://www.maxim-ic.com/; ComponentLink2Description: Datasheet; ComponentLink2URL: http://www.maxim-ic.com/getds.cfm?qv_pk=2605&ln=en
footprint DIP14 (DIP; 14 Leads; Row Spacing 7.62 mm; Pitch 2.54 mm)
3D model DIP14 (DIP; 14 Leads; Row Spacing 7.62 mm; Pitch 2.54 mm)
pins: 1 IN1 (in), 2 NC, 3 IN2 (in), 4 NC, 5 IN3 (in), 6 NC, 7 GND (power), 8 OUT3 (out), 9 NC, 10 OUT2 (out), 11 NC, 12 OUT1 (out), 13 NC, 14 VCC (power)

## DS1013-100
designator U?
3-in-1 Silicon Delay Line; PackageDocument: 1999; Note: Pin numbers 2, 4, 6, 9, 11 and 13 are Not Connected (NC); Published: 13-Oct-2000; LatestRevisionDate: 06-Jun-2005; LatestRevisionNote: Stylized 3D Model Added.; DatasheetDocument: 17-Feb-1998; PackageReference: DIP14; Publisher: Altium Limited; ComponentLink1Description: Manufacturer Link; ComponentLink1URL: http://www.maxim-ic.com/; ComponentLink2Description: Datasheet; ComponentLink2URL: http://www.maxim-ic.com/getds.cfm?qv_pk=2605&ln=en
footprint DIP14 (DIP; 14 Leads; Row Spacing 7.62 mm; Pitch 2.54 mm)
3D model DIP14 (DIP; 14 Leads; Row Spacing 7.62 mm; Pitch 2.54 mm)
pins: 1 IN1 (in), 2 NC, 3 IN2 (in), 4 NC, 5 IN3 (in), 6 NC, 7 GND (power), 8 OUT3 (out), 9 NC, 10 OUT2 (out), 11 NC, 12 OUT1 (out), 13 NC, 14 VCC (power)

## DS1013-150
designator U?
3-in-1 Silicon Delay Line; PackageDocument: 1999; Note: Pin numbers 2, 4, 6, 9, 11 and 13 are Not Connected (NC); Published: 13-Oct-2000; LatestRevisionDate: 06-Jun-2005; LatestRevisionNote: Stylized 3D Model Added.; DatasheetDocument: 17-Feb-1998; PackageReference: DIP14; Publisher: Altium Limited; ComponentLink1Description: Manufacturer Link; ComponentLink1URL: http://www.maxim-ic.com/; ComponentLink2Description: Datasheet; ComponentLink2URL: http://www.maxim-ic.com/getds.cfm?qv_pk=2605&ln=en
footprint DIP14 (DIP; 14 Leads; Row Spacing 7.62 mm; Pitch 2.54 mm)
3D model DIP14 (DIP; 14 Leads; Row Spacing 7.62 mm; Pitch 2.54 mm)
pins: 1 IN1 (in), 2 NC, 3 IN2 (in), 4 NC, 5 IN3 (in), 6 NC, 7 GND (power), 8 OUT3 (out), 9 NC, 10 OUT2 (out), 11 NC, 12 OUT1 (out), 13 NC, 14 VCC (power)

## DS1013G-10
designator U?
3-in-1 Silicon Delay Line; Note: Pin numbers 2, 4, 6, 9, 11 and 13 are Not Connected (NC); Published: 13-Oct-2000; LatestRevisionDate: 06-Jun-2005; LatestRevisionNote: Stylized 3D Model Added.; DatasheetDocument: Mar-1994; PackageDocument: Feb-1999; PackageReference: SOG14; Publisher: Altium Limited; ComponentLink1Description: Manufacturer Link; ComponentLink1URL: http://www.maxim-ic.com/; ComponentLink2Description: Datasheet; ComponentLink2URL: http://www.maxim-ic.com/getds.cfm?qv_pk=2605&ln=en
footprint SOG14 (Small Outline; 14 Leads; Body Width 6.4 mm; Pitch 2.54 mm)
3D model SOG14 (Small Outline; 14 Leads; Body Width 6.4 mm; Pitch 2.54 mm)
pins: 1 IN1 (in), 2 NC, 3 IN2 (in), 4 NC, 5 IN3 (in), 6 NC, 7 GND (power), 8 OUT3 (out), 9 NC, 10 OUT2 (out), 11 NC, 12 OUT1 (out), 13 NC, 14 VCC (power)

## DS1013G-12
designator U?
3-in-1 Silicon Delay Line; Note: Pin numbers 2, 4, 6, 9, 11 and 13 are Not Connected (NC); Published: 13-Oct-2000; LatestRevisionDate: 06-Jun-2005; LatestRevisionNote: Stylized 3D Model Added.; DatasheetDocument: Mar-1994; PackageDocument: Feb-1999; PackageReference: SOG14; Publisher: Altium Limited; ComponentLink1Description: Manufacturer Link; ComponentLink1URL: http://www.maxim-ic.com/; ComponentLink2Description: Datasheet; ComponentLink2URL: http://www.maxim-ic.com/getds.cfm?qv_pk=2605&ln=en
footprint SOG14 (Small Outline; 14 Leads; Body Width 6.4 mm; Pitch 2.54 mm)
3D model SOG14 (Small Outline; 14 Leads; Body Width 6.4 mm; Pitch 2.54 mm)
pins: 1 IN1 (in), 2 NC, 3 IN2 (in), 4 NC, 5 IN3 (in), 6 NC, 7 GND (power), 8 OUT3 (out), 9 NC, 10 OUT2 (out), 11 NC, 12 OUT1 (out), 13 NC, 14 VCC (power)

## DS1013G-15
designator U?
3-in-1 Silicon Delay Line; Note: Pin numbers 2, 4, 6, 9, 11 and 13 are Not Connected (NC); Published: 13-Oct-2000; LatestRevisionDate: 06-Jun-2005; LatestRevisionNote: Stylized 3D Model Added.; DatasheetDocument: Mar-1994; PackageDocument: Feb-1999; PackageReference: SOG14; Publisher: Altium Limited; ComponentLink1Description: Manufacturer Link; ComponentLink1URL: http://www.maxim-ic.com/; ComponentLink2Description: Datasheet; ComponentLink2URL: http://www.maxim-ic.com/getds.cfm?qv_pk=2605&ln=en
footprint SOG14 (Small Outline; 14 Leads; Body Width 6.4 mm; Pitch 2.54 mm)
3D model SOG14 (Small Outline; 14 Leads; Body Width 6.4 mm; Pitch 2.54 mm)
pins: 1 IN1 (in), 2 NC, 3 IN2 (in), 4 NC, 5 IN3 (in), 6 NC, 7 GND (power), 8 OUT3 (out), 9 NC, 10 OUT2 (out), 11 NC, 12 OUT1 (out), 13 NC, 14 VCC (power)

## DS1013G-20
designator U?
3-in-1 Silicon Delay Line; Note: Pin numbers 2, 4, 6, 9, 11 and 13 are Not Connected (NC); Published: 13-Oct-2000; LatestRevisionDate: 06-Jun-2005; LatestRevisionNote: Stylized 3D Model Added.; DatasheetDocument: Mar-1994; PackageDocument: Feb-1999; PackageReference: SOG14; Publisher: Altium Limited; ComponentLink1Description: Manufacturer Link; ComponentLink1URL: http://www.maxim-ic.com/; ComponentLink2Description: Datasheet; ComponentLink2URL: http://www.maxim-ic.com/getds.cfm?qv_pk=2605&ln=en
footprint SOG14 (Small Outline; 14 Leads; Body Width 6.4 mm; Pitch 2.54 mm)
3D model SOG14 (Small Outline; 14 Leads; Body Width 6.4 mm; Pitch 2.54 mm)
pins: 1 IN1 (in), 2 NC, 3 IN2 (in), 4 NC, 5 IN3 (in), 6 NC, 7 GND (power), 8 OUT3 (out), 9 NC, 10 OUT2 (out), 11 NC, 12 OUT1 (out), 13 NC, 14 VCC (power)

## DS1013G-25
designator U?
3-in-1 Silicon Delay Line; Note: Pin numbers 2, 4, 6, 9, 11 and 13 are Not Connected (NC); Published: 13-Oct-2000; LatestRevisionDate: 06-Jun-2005; LatestRevisionNote: Stylized 3D Model Added.; DatasheetDocument: Mar-1994; PackageDocument: Feb-1999; PackageReference: SOG14; Publisher: Altium Limited; ComponentLink1Description: Manufacturer Link; ComponentLink1URL: http://www.maxim-ic.com/; ComponentLink2Description: Datasheet; ComponentLink2URL: http://www.maxim-ic.com/getds.cfm?qv_pk=2605&ln=en
footprint SOG14 (Small Outline; 14 Leads; Body Width 6.4 mm; Pitch 2.54 mm)
3D model SOG14 (Small Outline; 14 Leads; Body Width 6.4 mm; Pitch 2.54 mm)
pins: 1 IN1 (in), 2 NC, 3 IN2 (in), 4 NC, 5 IN3 (in), 6 NC, 7 GND (power), 8 OUT3 (out), 9 NC, 10 OUT2 (out), 11 NC, 12 OUT1 (out), 13 NC, 14 VCC (power)

## DS1013G-30
designator U?
3-in-1 Silicon Delay Line; Note: Pin numbers 2, 4, 6, 9, 11 and 13 are Not Connected (NC); Published: 13-Oct-2000; LatestRevisionDate: 06-Jun-2005; LatestRevisionNote: Stylized 3D Model Added.; DatasheetDocument: Mar-1994; PackageDocument: Feb-1999; PackageReference: SOG14; Publisher: Altium Limited; ComponentLink1Description: Manufacturer Link; ComponentLink1URL: http://www.maxim-ic.com/; ComponentLink2Description: Datasheet; ComponentLink2URL: http://www.maxim-ic.com/getds.cfm?qv_pk=2605&ln=en
footprint SOG14 (Small Outline; 14 Leads; Body Width 6.4 mm; Pitch 2.54 mm)
3D model SOG14 (Small Outline; 14 Leads; Body Width 6.4 mm; Pitch 2.54 mm)
pins: 1 IN1 (in), 2 NC, 3 IN2 (in), 4 NC, 5 IN3 (in), 6 NC, 7 GND (power), 8 OUT3 (out), 9 NC, 10 OUT2 (out), 11 NC, 12 OUT1 (out), 13 NC, 14 VCC (power)

## DS1013G-35
designator U?
3-in-1 Silicon Delay Line; Note: Pin numbers 2, 4, 6, 9, 11 and 13 are Not Connected (NC); Published: 13-Oct-2000; LatestRevisionDate: 06-Jun-2005; LatestRevisionNote: Stylized 3D Model Added.; DatasheetDocument: Mar-1994; PackageDocument: Feb-1999; PackageReference: SOG14; Publisher: Altium Limited; ComponentLink1Description: Manufacturer Link; ComponentLink1URL: http://www.maxim-ic.com/; ComponentLink2Description: Datasheet; ComponentLink2URL: http://www.maxim-ic.com/getds.cfm?qv_pk=2605&ln=en
footprint SOG14 (Small Outline; 14 Leads; Body Width 6.4 mm; Pitch 2.54 mm)
3D model SOG14 (Small Outline; 14 Leads; Body Width 6.4 mm; Pitch 2.54 mm)
pins: 1 IN1 (in), 2 NC, 3 IN2 (in), 4 NC, 5 IN3 (in), 6 NC, 7 GND (power), 8 OUT3 (out), 9 NC, 10 OUT2 (out), 11 NC, 12 OUT1 (out), 13 NC, 14 VCC (power)

## DS1013G-40
designator U?
3-in-1 Silicon Delay Line; Note: Pin numbers 2, 4, 6, 9, 11 and 13 are Not Connected (NC); Published: 13-Oct-2000; LatestRevisionDate: 06-Jun-2005; LatestRevisionNote: Stylized 3D Model Added.; DatasheetDocument: Mar-1994; PackageDocument: Feb-1999; PackageReference: SOG14; Publisher: Altium Limited; ComponentLink1Description: Manufacturer Link; ComponentLink1URL: http://www.maxim-ic.com/; ComponentLink2Description: Datasheet; ComponentLink2URL: http://www.maxim-ic.com/getds.cfm?qv_pk=2605&ln=en
footprint SOG14 (Small Outline; 14 Leads; Body Width 6.4 mm; Pitch 2.54 mm)
3D model SOG14 (Small Outline; 14 Leads; Body Width 6.4 mm; Pitch 2.54 mm)
pins: 1 IN1 (in), 2 NC, 3 IN2 (in), 4 NC, 5 IN3 (in), 6 NC, 7 GND (power), 8 OUT3 (out), 9 NC, 10 OUT2 (out), 11 NC, 12 OUT1 (out), 13 NC, 14 VCC (power)

## DS1013G-45
designator U?
3-in-1 Silicon Delay Line; Note: Pin numbers 2, 4, 6, 9, 11 and 13 are Not Connected (NC); Published: 13-Oct-2000; LatestRevisionDate: 06-Jun-2005; LatestRevisionNote: Stylized 3D Model Added.; DatasheetDocument: Mar-1994; PackageDocument: Feb-1999; PackageReference: SOG14; Publisher: Altium Limited; ComponentLink1Description: Manufacturer Link; ComponentLink1URL: http://www.maxim-ic.com/; ComponentLink2Description: Datasheet; ComponentLink2URL: http://www.maxim-ic.com/getds.cfm?qv_pk=2605&ln=en
footprint SOG14 (Small Outline; 14 Leads; Body Width 6.4 mm; Pitch 2.54 mm)
3D model SOG14 (Small Outline; 14 Leads; Body Width 6.4 mm; Pitch 2.54 mm)
pins: 1 IN1 (in), 2 NC, 3 IN2 (in), 4 NC, 5 IN3 (in), 6 NC, 7 GND (power), 8 OUT3 (out), 9 NC, 10 OUT2 (out), 11 NC, 12 OUT1 (out), 13 NC, 14 VCC (power)

## DS1013G-50
designator U?
3-in-1 Silicon Delay Line; Note: Pin numbers 2, 4, 6, 9, 11 and 13 are Not Connected (NC); Published: 13-Oct-2000; LatestRevisionDate: 06-Jun-2005; LatestRevisionNote: Stylized 3D Model Added.; DatasheetDocument: Mar-1994; PackageDocument: Feb-1999; PackageReference: SOG14; Publisher: Altium Limited; ComponentLink1Description: Manufacturer Link; ComponentLink1URL: http://www.maxim-ic.com/; ComponentLink2Description: Datasheet; ComponentLink2URL: http://www.maxim-ic.com/getds.cfm?qv_pk=2605&ln=en
footprint SOG14 (Small Outline; 14 Leads; Body Width 6.4 mm; Pitch 2.54 mm)
3D model SOG14 (Small Outline; 14 Leads; Body Width 6.4 mm; Pitch 2.54 mm)
pins: 1 IN1 (in), 2 NC, 3 IN2 (in), 4 NC, 5 IN3 (in), 6 NC, 7 GND (power), 8 OUT3 (out), 9 NC, 10 OUT2 (out), 11 NC, 12 OUT1 (out), 13 NC, 14 VCC (power)

## DS1013G-55
designator U?
3-in-1 Silicon Delay Line; Note: Pin numbers 2, 4, 6, 9, 11 and 13 are Not Connected (NC); Published: 13-Oct-2000; LatestRevisionDate: 06-Jun-2005; LatestRevisionNote: Stylized 3D Model Added.; DatasheetDocument: Mar-1994; PackageDocument: Feb-1999; PackageReference: SOG14; Publisher: Altium Limited; ComponentLink1Description: Manufacturer Link; ComponentLink1URL: http://www.maxim-ic.com/; ComponentLink2Description: Datasheet; ComponentLink2URL: http://www.maxim-ic.com/getds.cfm?qv_pk=2605&ln=en
footprint SOG14 (Small Outline; 14 Leads; Body Width 6.4 mm; Pitch 2.54 mm)
3D model SOG14 (Small Outline; 14 Leads; Body Width 6.4 mm; Pitch 2.54 mm)
pins: 1 IN1 (in), 2 NC, 3 IN2 (in), 4 NC, 5 IN3 (in), 6 NC, 7 GND (power), 8 OUT3 (out), 9 NC, 10 OUT2 (out), 11 NC, 12 OUT1 (out), 13 NC, 14 VCC (power)

## DS1013G-60
designator U?
3-in-1 Silicon Delay Line; Note: Pin numbers 2, 4, 6, 9, 11 and 13 are Not Connected (NC); Published: 13-Oct-2000; LatestRevisionDate: 06-Jun-2005; LatestRevisionNote: Stylized 3D Model Added.; DatasheetDocument: Mar-1994; PackageDocument: Feb-1999; PackageReference: SOG14; Publisher: Altium Limited; ComponentLink1Description: Manufacturer Link; ComponentLink1URL: http://www.maxim-ic.com/; ComponentLink2Description: Datasheet; ComponentLink2URL: http://www.maxim-ic.com/getds.cfm?qv_pk=2605&ln=en
footprint SOG14 (Small Outline; 14 Leads; Body Width 6.4 mm; Pitch 2.54 mm)
3D model SOG14 (Small Outline; 14 Leads; Body Width 6.4 mm; Pitch 2.54 mm)
pins: 1 IN1 (in), 2 NC, 3 IN2 (in), 4 NC, 5 IN3 (in), 6 NC, 7 GND (power), 8 OUT3 (out), 9 NC, 10 OUT2 (out), 11 NC, 12 OUT1 (out), 13 NC, 14 VCC (power)

## DS1013G-65
designator U?
3-in-1 Silicon Delay Line; Note: Pin numbers 2, 4, 6, 9, 11 and 13 are Not Connected (NC); Published: 13-Oct-2000; LatestRevisionDate: 06-Jun-2005; LatestRevisionNote: Stylized 3D Model Added.; DatasheetDocument: Mar-1994; PackageDocument: Feb-1999; PackageReference: SOG14; Publisher: Altium Limited; ComponentLink1Description: Manufacturer Link; ComponentLink1URL: http://www.maxim-ic.com/; ComponentLink2Description: Datasheet; ComponentLink2URL: http://www.maxim-ic.com/getds.cfm?qv_pk=2605&ln=en
footprint SOG14 (Small Outline; 14 Leads; Body Width 6.4 mm; Pitch 2.54 mm)
3D model SOG14 (Small Outline; 14 Leads; Body Width 6.4 mm; Pitch 2.54 mm)
pins: 1 IN1 (in), 2 NC, 3 IN2 (in), 4 NC, 5 IN3 (in), 6 NC, 7 GND (power), 8 OUT3 (out), 9 NC, 10 OUT2 (out), 11 NC, 12 OUT1 (out), 13 NC, 14 VCC (power)

## DS1013G-70
designator U?
3-in-1 Silicon Delay Line; Note: Pin numbers 2, 4, 6, 9, 11 and 13 are Not Connected (NC); Published: 13-Oct-2000; LatestRevisionDate: 06-Jun-2005; LatestRevisionNote: Stylized 3D Model Added.; DatasheetDocument: Mar-1994; PackageDocument: Feb-1999; PackageReference: SOG14; Publisher: Altium Limited; ComponentLink1Description: Manufacturer Link; ComponentLink1URL: http://www.maxim-ic.com/; ComponentLink2Description: Datasheet; ComponentLink2URL: http://www.maxim-ic.com/getds.cfm?qv_pk=2605&ln=en
footprint SOG14 (Small Outline; 14 Leads; Body Width 6.4 mm; Pitch 2.54 mm)
3D model SOG14 (Small Outline; 14 Leads; Body Width 6.4 mm; Pitch 2.54 mm)
pins: 1 IN1 (in), 2 NC, 3 IN2 (in), 4 NC, 5 IN3 (in), 6 NC, 7 GND (power), 8 OUT3 (out), 9 NC, 10 OUT2 (out), 11 NC, 12 OUT1 (out), 13 NC, 14 VCC (power)

## DS1013G-75
designator U?
3-in-1 Silicon Delay Line; Note: Pin numbers 2, 4, 6, 9, 11 and 13 are Not Connected (NC); Published: 13-Oct-2000; LatestRevisionDate: 06-Jun-2005; LatestRevisionNote: Stylized 3D Model Added.; DatasheetDocument: Mar-1994; PackageDocument: Feb-1999; PackageReference: SOG14; Publisher: Altium Limited; ComponentLink1Description: Manufacturer Link; ComponentLink1URL: http://www.maxim-ic.com/; ComponentLink2Description: Datasheet; ComponentLink2URL: http://www.maxim-ic.com/getds.cfm?qv_pk=2605&ln=en
footprint SOG14 (Small Outline; 14 Leads; Body Width 6.4 mm; Pitch 2.54 mm)
3D model SOG14 (Small Outline; 14 Leads; Body Width 6.4 mm; Pitch 2.54 mm)
pins: 1 IN1 (in), 2 NC, 3 IN2 (in), 4 NC, 5 IN3 (in), 6 NC, 7 GND (power), 8 OUT3 (out), 9 NC, 10 OUT2 (out), 11 NC, 12 OUT1 (out), 13 NC, 14 VCC (power)

## DS1013G-80
designator U?
3-in-1 Silicon Delay Line; Note: Pin numbers 2, 4, 6, 9, 11 and 13 are Not Connected (NC); Published: 13-Oct-2000; LatestRevisionDate: 06-Jun-2005; LatestRevisionNote: Stylized 3D Model Added.; DatasheetDocument: Mar-1994; PackageDocument: Feb-1999; PackageReference: SOG14; Publisher: Altium Limited; ComponentLink1Description: Manufacturer Link; ComponentLink1URL: http://www.maxim-ic.com/; ComponentLink2Description: Datasheet; ComponentLink2URL: http://www.maxim-ic.com/getds.cfm?qv_pk=2605&ln=en
footprint SOG14 (Small Outline; 14 Leads; Body Width 6.4 mm; Pitch 2.54 mm)
3D model SOG14 (Small Outline; 14 Leads; Body Width 6.4 mm; Pitch 2.54 mm)
pins: 1 IN1 (in), 2 NC, 3 IN2 (in), 4 NC, 5 IN3 (in), 6 NC, 7 GND (power), 8 OUT3 (out), 9 NC, 10 OUT2 (out), 11 NC, 12 OUT1 (out), 13 NC, 14 VCC (power)

## DS1013G-90
designator U?
3-in-1 Silicon Delay Line; Note: Pin numbers 2, 4, 6, 9, 11 and 13 are Not Connected (NC); Published: 13-Oct-2000; LatestRevisionDate: 06-Jun-2005; LatestRevisionNote: Stylized 3D Model Added.; DatasheetDocument: Mar-1994; PackageDocument: Feb-1999; PackageReference: SOG14; Publisher: Altium Limited; ComponentLink1Description: Manufacturer Link; ComponentLink1URL: http://www.maxim-ic.com/; ComponentLink2Description: Datasheet; ComponentLink2URL: http://www.maxim-ic.com/getds.cfm?qv_pk=2605&ln=en
footprint SOG14 (Small Outline; 14 Leads; Body Width 6.4 mm; Pitch 2.54 mm)
3D model SOG14 (Small Outline; 14 Leads; Body Width 6.4 mm; Pitch 2.54 mm)
pins: 1 IN1 (in), 2 NC, 3 IN2 (in), 4 NC, 5 IN3 (in), 6 NC, 7 GND (power), 8 OUT3 (out), 9 NC, 10 OUT2 (out), 11 NC, 12 OUT1 (out), 13 NC, 14 VCC (power)

## DS1013G-100
designator U?
3-in-1 Silicon Delay Line; Note: Pin numbers 2, 4, 6, 9, 11 and 13 are Not Connected (NC); Published: 13-Oct-2000; LatestRevisionDate: 06-Jun-2005; LatestRevisionNote: Stylized 3D Model Added.; DatasheetDocument: Mar-1994; PackageDocument: Feb-1999; PackageReference: SOG14; Publisher: Altium Limited; ComponentLink1Description: Manufacturer Link; ComponentLink1URL: http://www.maxim-ic.com/; ComponentLink2Description: Datasheet; ComponentLink2URL: http://www.maxim-ic.com/getds.cfm?qv_pk=2605&ln=en
footprint SOG14 (Small Outline; 14 Leads; Body Width 6.4 mm; Pitch 2.54 mm)
3D model SOG14 (Small Outline; 14 Leads; Body Width 6.4 mm; Pitch 2.54 mm)
pins: 1 IN1 (in), 2 NC, 3 IN2 (in), 4 NC, 5 IN3 (in), 6 NC, 7 GND (power), 8 OUT3 (out), 9 NC, 10 OUT2 (out), 11 NC, 12 OUT1 (out), 13 NC, 14 VCC (power)

## DS1013G-150
designator U?
3-in-1 Silicon Delay Line; Note: Pin numbers 2, 4, 6, 9, 11 and 13 are Not Connected (NC); Published: 13-Oct-2000; LatestRevisionDate: 06-Jun-2005; LatestRevisionNote: Stylized 3D Model Added.; DatasheetDocument: Mar-1994; PackageDocument: Feb-1999; PackageReference: SOG14; Publisher: Altium Limited; ComponentLink1Description: Manufacturer Link; ComponentLink1URL: http://www.maxim-ic.com/; ComponentLink2Description: Datasheet; ComponentLink2URL: http://www.maxim-ic.com/getds.cfm?qv_pk=2605&ln=en
footprint SOG14 (Small Outline; 14 Leads; Body Width 6.4 mm; Pitch 2.54 mm)
3D model SOG14 (Small Outline; 14 Leads; Body Width 6.4 mm; Pitch 2.54 mm)
pins: 1 IN1 (in), 2 NC, 3 IN2 (in), 4 NC, 5 IN3 (in), 6 NC, 7 GND (power), 8 OUT3 (out), 9 NC, 10 OUT2 (out), 11 NC, 12 OUT1 (out), 13 NC, 14 VCC (power)

## DS1013H-10
designator U?
3-in-1 Silicon Delay Line; Published: 13-Oct-2000; LatestRevisionDate: 06-Jun-2005; LatestRevisionNote: Stylized 3D Model Added.; DatasheetDocument: Mar-1994; PackageDocument: Feb-1999; PackageReference: SOG8; Publisher: Altium Limited; ComponentLink1Description: Manufacturer Link; ComponentLink1URL: http://www.maxim-ic.com/; ComponentLink2Description: Datasheet; ComponentLink2URL: http://www.maxim-ic.com/getds.cfm?qv_pk=2605&ln=en
footprint SOG8 (Small Outline; 8 Leads; Body Width 6.4 mm; Pitch 2.54 mm)
3D model SOG8 (Small Outline; 8 Leads; Body Width 6.4 mm; Pitch 2.54 mm)
pins: 1 IN1 (in), 2 IN2 (in), 3 IN3 (in), 4 GND (power), 5 OUT3 (out), 6 OUT2 (out), 7 OUT1 (out), 8 VCC (power)

## DS1013H-12
designator U?
3-in-1 Silicon Delay Line; Published: 13-Oct-2000; LatestRevisionDate: 06-Jun-2005; LatestRevisionNote: Stylized 3D Model Added.; DatasheetDocument: Mar-1994; PackageDocument: Feb-1999; PackageReference: SOG8; Publisher: Altium Limited; ComponentLink1Description: Manufacturer Link; ComponentLink1URL: http://www.maxim-ic.com/; ComponentLink2Description: Datasheet; ComponentLink2URL: http://www.maxim-ic.com/getds.cfm?qv_pk=2605&ln=en
footprint SOG8 (Small Outline; 8 Leads; Body Width 6.4 mm; Pitch 2.54 mm)
3D model SOG8 (Small Outline; 8 Leads; Body Width 6.4 mm; Pitch 2.54 mm)
pins: 1 IN1 (in), 2 IN2 (in), 3 IN3 (in), 4 GND (power), 5 OUT3 (out), 6 OUT2 (out), 7 OUT1 (out), 8 VCC (power)

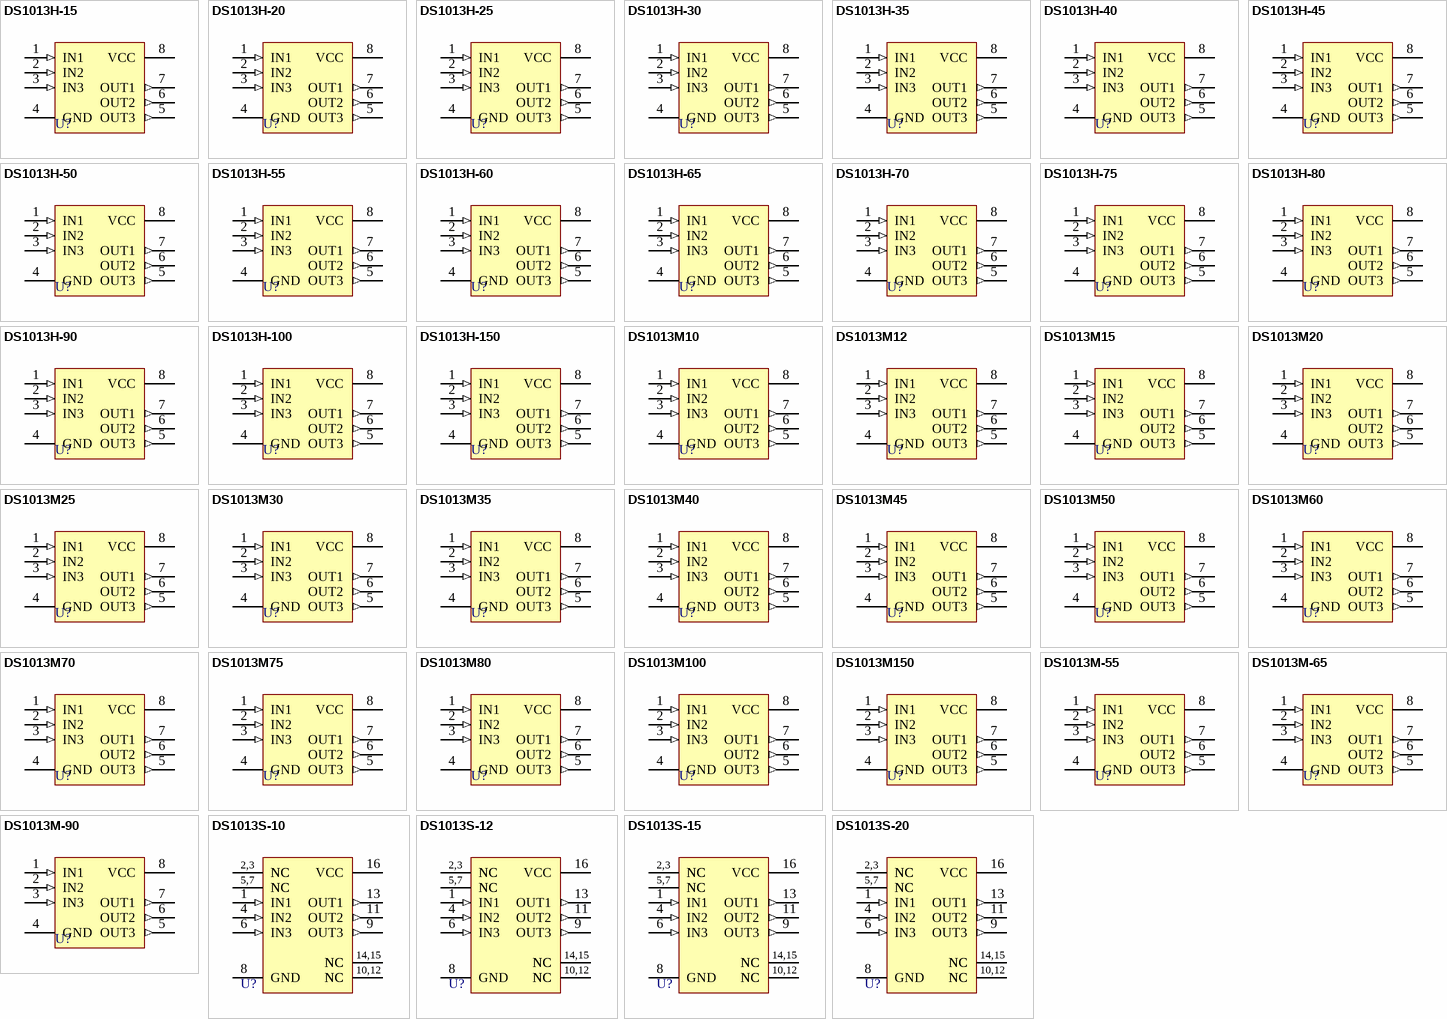
[diagram p8: symbols DS1013H-15 to DS1013S-20]

## DS1013H-15
designator U?
3-in-1 Silicon Delay Line; Published: 13-Oct-2000; LatestRevisionDate: 06-Jun-2005; LatestRevisionNote: Stylized 3D Model Added.; DatasheetDocument: Mar-1994; PackageDocument: Feb-1999; PackageReference: SOG8; Publisher: Altium Limited; ComponentLink1Description: Manufacturer Link; ComponentLink1URL: http://www.maxim-ic.com/; ComponentLink2Description: Datasheet; ComponentLink2URL: http://www.maxim-ic.com/getds.cfm?qv_pk=2605&ln=en
footprint SOG8 (Small Outline; 8 Leads; Body Width 6.4 mm; Pitch 2.54 mm)
3D model SOG8 (Small Outline; 8 Leads; Body Width 6.4 mm; Pitch 2.54 mm)
pins: 1 IN1 (in), 2 IN2 (in), 3 IN3 (in), 4 GND (power), 5 OUT3 (out), 6 OUT2 (out), 7 OUT1 (out), 8 VCC (power)

## DS1013H-20
designator U?
3-in-1 Silicon Delay Line; Published: 13-Oct-2000; LatestRevisionDate: 06-Jun-2005; LatestRevisionNote: Stylized 3D Model Added.; DatasheetDocument: Mar-1994; PackageDocument: Feb-1999; PackageReference: SOG8; Publisher: Altium Limited; ComponentLink1Description: Manufacturer Link; ComponentLink1URL: http://www.maxim-ic.com/; ComponentLink2Description: Datasheet; ComponentLink2URL: http://www.maxim-ic.com/getds.cfm?qv_pk=2605&ln=en
footprint SOG8 (Small Outline; 8 Leads; Body Width 6.4 mm; Pitch 2.54 mm)
3D model SOG8 (Small Outline; 8 Leads; Body Width 6.4 mm; Pitch 2.54 mm)
pins: 1 IN1 (in), 2 IN2 (in), 3 IN3 (in), 4 GND (power), 5 OUT3 (out), 6 OUT2 (out), 7 OUT1 (out), 8 VCC (power)

## DS1013H-25
designator U?
3-in-1 Silicon Delay Line; Published: 13-Oct-2000; LatestRevisionDate: 06-Jun-2005; LatestRevisionNote: Stylized 3D Model Added.; DatasheetDocument: Mar-1994; PackageDocument: Feb-1999; PackageReference: SOG8; Publisher: Altium Limited; ComponentLink1Description: Manufacturer Link; ComponentLink1URL: http://www.maxim-ic.com/; ComponentLink2Description: Datasheet; ComponentLink2URL: http://www.maxim-ic.com/getds.cfm?qv_pk=2605&ln=en
footprint SOG8 (Small Outline; 8 Leads; Body Width 6.4 mm; Pitch 2.54 mm)
3D model SOG8 (Small Outline; 8 Leads; Body Width 6.4 mm; Pitch 2.54 mm)
pins: 1 IN1 (in), 2 IN2 (in), 3 IN3 (in), 4 GND (power), 5 OUT3 (out), 6 OUT2 (out), 7 OUT1 (out), 8 VCC (power)

## DS1013H-30
designator U?
3-in-1 Silicon Delay Line; Published: 13-Oct-2000; LatestRevisionDate: 06-Jun-2005; LatestRevisionNote: Stylized 3D Model Added.; DatasheetDocument: Mar-1994; PackageDocument: Feb-1999; PackageReference: SOG8; Publisher: Altium Limited; ComponentLink1Description: Manufacturer Link; ComponentLink1URL: http://www.maxim-ic.com/; ComponentLink2Description: Datasheet; ComponentLink2URL: http://www.maxim-ic.com/getds.cfm?qv_pk=2605&ln=en
footprint SOG8 (Small Outline; 8 Leads; Body Width 6.4 mm; Pitch 2.54 mm)
3D model SOG8 (Small Outline; 8 Leads; Body Width 6.4 mm; Pitch 2.54 mm)
pins: 1 IN1 (in), 2 IN2 (in), 3 IN3 (in), 4 GND (power), 5 OUT3 (out), 6 OUT2 (out), 7 OUT1 (out), 8 VCC (power)

## DS1013H-35
designator U?
3-in-1 Silicon Delay Line; Published: 13-Oct-2000; LatestRevisionDate: 06-Jun-2005; LatestRevisionNote: Stylized 3D Model Added.; DatasheetDocument: Mar-1994; PackageDocument: Feb-1999; PackageReference: SOG8; Publisher: Altium Limited; ComponentLink1Description: Manufacturer Link; ComponentLink1URL: http://www.maxim-ic.com/; ComponentLink2Description: Datasheet; ComponentLink2URL: http://www.maxim-ic.com/getds.cfm?qv_pk=2605&ln=en
footprint SOG8 (Small Outline; 8 Leads; Body Width 6.4 mm; Pitch 2.54 mm)
3D model SOG8 (Small Outline; 8 Leads; Body Width 6.4 mm; Pitch 2.54 mm)
pins: 1 IN1 (in), 2 IN2 (in), 3 IN3 (in), 4 GND (power), 5 OUT3 (out), 6 OUT2 (out), 7 OUT1 (out), 8 VCC (power)

## DS1013H-40
designator U?
3-in-1 Silicon Delay Line; Published: 13-Oct-2000; LatestRevisionDate: 06-Jun-2005; LatestRevisionNote: Stylized 3D Model Added.; DatasheetDocument: Mar-1994; PackageDocument: Feb-1999; PackageReference: SOG8; Publisher: Altium Limited; ComponentLink1Description: Manufacturer Link; ComponentLink1URL: http://www.maxim-ic.com/; ComponentLink2Description: Datasheet; ComponentLink2URL: http://www.maxim-ic.com/getds.cfm?qv_pk=2605&ln=en
footprint SOG8 (Small Outline; 8 Leads; Body Width 6.4 mm; Pitch 2.54 mm)
3D model SOG8 (Small Outline; 8 Leads; Body Width 6.4 mm; Pitch 2.54 mm)
pins: 1 IN1 (in), 2 IN2 (in), 3 IN3 (in), 4 GND (power), 5 OUT3 (out), 6 OUT2 (out), 7 OUT1 (out), 8 VCC (power)

## DS1013H-45
designator U?
3-in-1 Silicon Delay Line; Published: 13-Oct-2000; LatestRevisionDate: 06-Jun-2005; LatestRevisionNote: Stylized 3D Model Added.; DatasheetDocument: Mar-1994; PackageDocument: Feb-1999; PackageReference: SOG8; Publisher: Altium Limited; ComponentLink1Description: Manufacturer Link; ComponentLink1URL: http://www.maxim-ic.com/; ComponentLink2Description: Datasheet; ComponentLink2URL: http://www.maxim-ic.com/getds.cfm?qv_pk=2605&ln=en
footprint SOG8 (Small Outline; 8 Leads; Body Width 6.4 mm; Pitch 2.54 mm)
3D model SOG8 (Small Outline; 8 Leads; Body Width 6.4 mm; Pitch 2.54 mm)
pins: 1 IN1 (in), 2 IN2 (in), 3 IN3 (in), 4 GND (power), 5 OUT3 (out), 6 OUT2 (out), 7 OUT1 (out), 8 VCC (power)

## DS1013H-50
designator U?
3-in-1 Silicon Delay Line; Published: 13-Oct-2000; LatestRevisionDate: 06-Jun-2005; LatestRevisionNote: Stylized 3D Model Added.; DatasheetDocument: Mar-1994; PackageDocument: Feb-1999; PackageReference: SOG8; Publisher: Altium Limited; ComponentLink1Description: Manufacturer Link; ComponentLink1URL: http://www.maxim-ic.com/; ComponentLink2Description: Datasheet; ComponentLink2URL: http://www.maxim-ic.com/getds.cfm?qv_pk=2605&ln=en
footprint SOG8 (Small Outline; 8 Leads; Body Width 6.4 mm; Pitch 2.54 mm)
3D model SOG8 (Small Outline; 8 Leads; Body Width 6.4 mm; Pitch 2.54 mm)
pins: 1 IN1 (in), 2 IN2 (in), 3 IN3 (in), 4 GND (power), 5 OUT3 (out), 6 OUT2 (out), 7 OUT1 (out), 8 VCC (power)

## DS1013H-55
designator U?
3-in-1 Silicon Delay Line; Published: 13-Oct-2000; LatestRevisionDate: 06-Jun-2005; LatestRevisionNote: Stylized 3D Model Added.; DatasheetDocument: Mar-1994; PackageDocument: Feb-1999; PackageReference: SOG8; Publisher: Altium Limited; ComponentLink1Description: Manufacturer Link; ComponentLink1URL: http://www.maxim-ic.com/; ComponentLink2Description: Datasheet; ComponentLink2URL: http://www.maxim-ic.com/getds.cfm?qv_pk=2605&ln=en
footprint SOG8 (Small Outline; 8 Leads; Body Width 6.4 mm; Pitch 2.54 mm)
3D model SOG8 (Small Outline; 8 Leads; Body Width 6.4 mm; Pitch 2.54 mm)
pins: 1 IN1 (in), 2 IN2 (in), 3 IN3 (in), 4 GND (power), 5 OUT3 (out), 6 OUT2 (out), 7 OUT1 (out), 8 VCC (power)